# Altium schematic symbol library Headers.schlib: 2 symbols
Pins are listed as number, name and electrical type; pins without a type are passive.

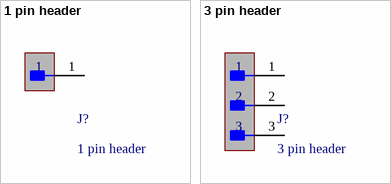
[diagram p0: symbols 1 pin header to 3 pin header]

## 1 pin header
designator J?
footprint 1 pin header
pins: 1

## 3 pin header
designator J?
footprint 3 pin header 2.54mm
pins: 1, 2, 3